# EAGLE library part SFV24R-2STE1LF (library FCI-tkr)
FFC/FPC CONNECTOR, RECEPTACLE 24POS 1ROW
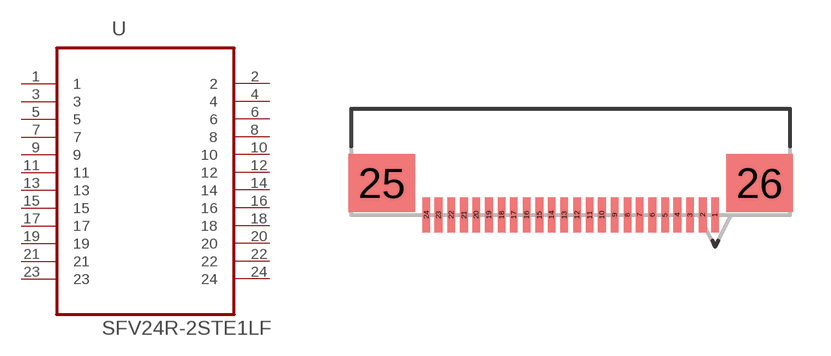
[diagram p51: symbol with the pads of FCI_SFV24R-2STE1LF; footprint FCI_SFV24R-2STE1LF]

Designator prefix U

## SFV24R-2STE1LF (MPN: SFV24R-2STE1LF; OC_FARNELL: -; OC_NEWARK: 62K5584; PACKAGE: CONNECTOR - 24POS; SUPPLIER: FCI)  [FCI_SFV24R-2STE1LF]
1  1  pas
2  2  pas
3  3  pas
4  4  pas
5  5  pas
6  6  pas
7  7  pas
8  8  pas
9  9  pas
10  10  pas
11  11  pas
12  12  pas
13  13  pas
14  14  pas
15  15  pas
16  16  pas
17  17  pas
18  18  pas
19  19  pas
20  20  pas
21  21  pas
22  22  pas
23  23  pas
24  24  pas

## Footprint FCI_SFV24R-2STE1LF (pad centres in mm)
smd 0.305 x 1.397: 1 5.74,2.083; 2 5.258,2.083; 3 4.75,2.083; 4 4.242,2.083; 5 3.759,2.083; 6 3.251,2.083; 7 2.743,2.083; 8 2.261,2.083; 9 1.753,2.083; 10 1.245,2.083; 11 0.762,2.083; 12 0.254,2.083; 13 -0.254,2.083; 14 -0.762,2.083; 15 -1.245,2.083; 16 -1.753,2.083; 17 -2.261,2.083; 18 -2.743,2.083; 19 -3.251,2.083; 20 -3.759,2.083; 21 -4.242,2.083; 22 -4.75,2.083; 23 -5.258,2.083; 24 -5.74,2.083
smd 2.642 x 2.311: 25 -7.518,3.353; 26 7.518,3.353